# Altium integrated library NSC MiscPower.IntLib: 1417 symbols (part 3 of 39)
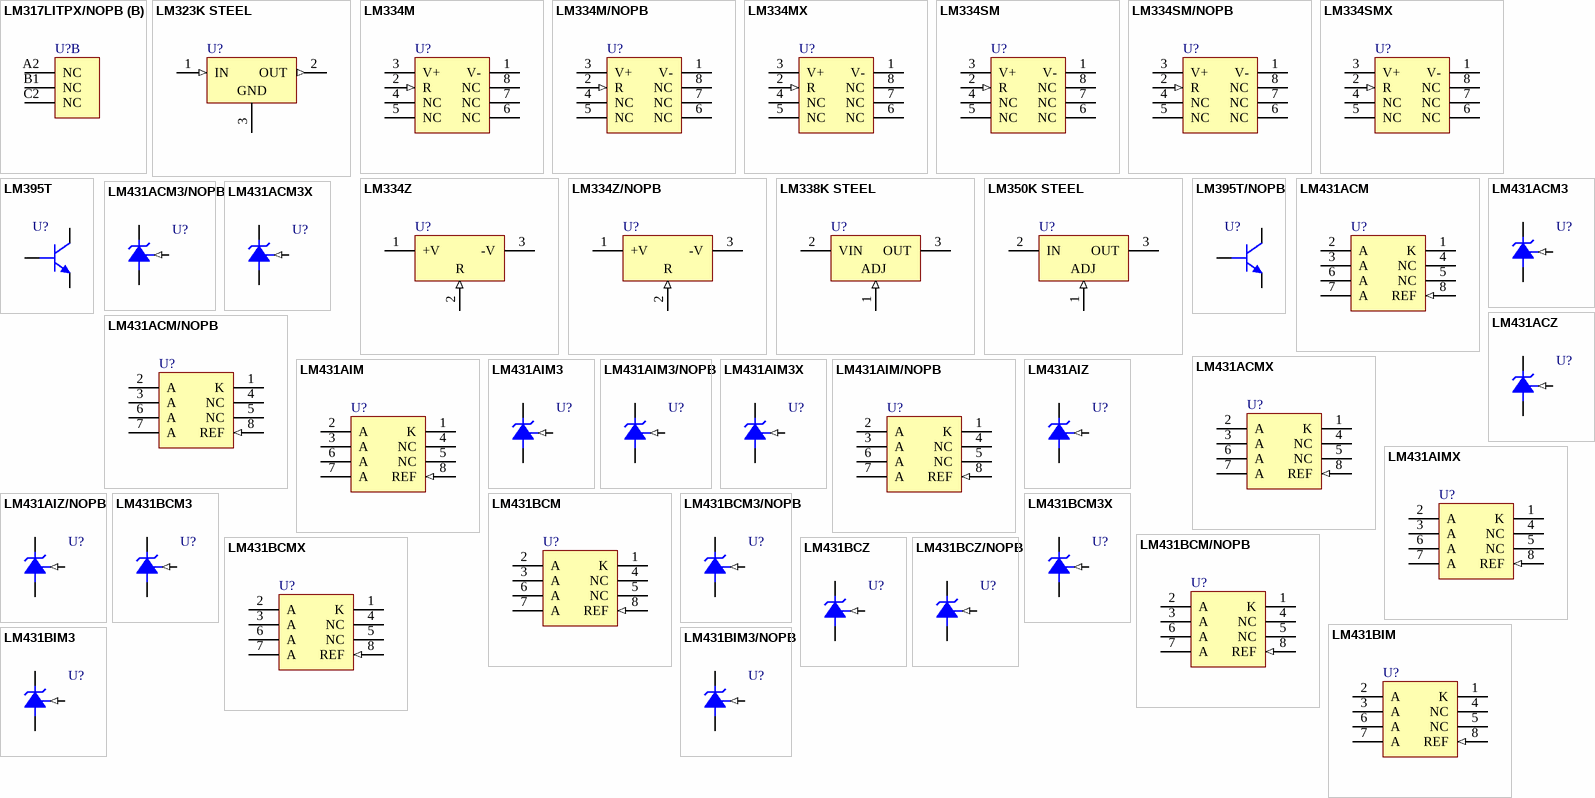
[diagram p53: symbols LM317LITPX/NOPB to LM431BIM3/NOPB]

## LM431AIZ/NOPB
designator U?
Adjustable Precision Zener Shunt Regulator, 3-pin TO-92, Pb-Free; PartNumber: LM431AIZ/NOPB; Manufacturer: National Semiconductor; PackageTopMarking: NSXYTT*LM431*AIZ; PowerWise: N; CompType: MiscPower; Published: 1-Mar-2010; DatasheetVersion: Mar-2005; PackageVersion: revG, Sep-2000; PackageReference: Z03A; Publisher: Altium Limited; PackageDescription: TO-92, Molded, 3 Lead; Supplier 1: Digi-Key; Supplier Part Number 1: LM431AIZ-ND; Supplier 2: Farnell; Supplier Part Number 2: 1564662; RoHS: Y; PinCount: 3; Code_JEDEC: TO-226-AA; ComponentLink1Description: LM431 Datasheet; ComponentLink1URL: http://www.national.com/ds/LM/LM431.pdf; ComponentLink2Description: LM431 Web Page; ComponentLink2URL: http://www.national.com/pf/LM/LM431.html; ComponentLink3Description: Z03A Package Page; ComponentLink3URL: http://www.national.com/packaging/folders/z03a.html
footprint Z03A (TO, Flat Index; 3 In-Line, Axial Leads; Body Dia. 5mm; Leads 0.55 x 0.50 mm (max))
pins: 1 REF (in), 2 A, 3 K

## LM431BCM
designator U?
Adjustable Precision Zener Shunt Regulator, 8-pin Narrow SOIC; PartNumber: LM431BCM; Manufacturer: National Semiconductor; PackageTopMarking: NSZXTT*431*BCM; PowerWise: N; CompType: MiscPower; Published: 4-Dec-2008; DatasheetVersion: Mar-2005; PackageVersion: revM, May-2009; PackageReference: M08A; Publisher: Altium Limited; PackageDescription: SOIC Narrow, 4.9 x 3.9 x 1.45mm, 8 Lead, 1.27mm Pitch; RoHS: N; PinCount: 8; Code_JEDEC: MS-012-AA; Code_IPC: SOIC127P600-8; ComponentLink1Description: LM431 Datasheet; ComponentLink1URL: http://www.national.com/ds/LM/LM431.pdf; ComponentLink2Description: LM431 Web Page; ComponentLink2URL: http://www.national.com/pf/LM/LM431.html; ComponentLink3Description: M08A Package Page; ComponentLink3URL: http://www.national.com/packaging/folders/m08a.html
footprint M08A_N (SOIC, 8-Leads, Body 4.9x3.9mm, Pitch 1.27mm, IPC Medium Density)
footprint M08A_L (SOIC, 8-Leads, Body 4.9x3.9mm, Pitch 1.27mm, IPC High Density)
footprint M08A_M (SOIC, 8-Leads, Body 4.9x3.9mm, Pitch 1.27mm, IPC Low Density)
pins: 1 K, 2 A, 3 A, 4 NC, 5 NC, 6 A, 7 A, 8 REF (in)

## LM431BCM3
designator U?
Adjustable Precision Zener Shunt Regulator, 3-pin SOT-23; PartNumber: LM431BCM3; Manufacturer: National Semiconductor; PackageTopMarking: N1D*XTT; PowerWise: N; CompType: MiscPower; Published: 4-Dec-2008; DatasheetVersion: Mar-2005; PackageVersion: revB, Mar-2003; PackageReference: MF03A; Publisher: Altium Limited; PackageDescription: Molded SOT-23, .115 x .051 x .037in Body, 3 Lead, .075 in Pitch; Supplier 1: Digi-Key; Supplier Part Number 1: LM431BCM3TR-ND; Supplier 2: Digi-Key; Supplier Part Number 2: LM431BCM3CT-ND; Supplier 3: Farnell; Supplier Part Number 3: 9779868; RoHS: N; PinCount: 3; ComponentLink1Description: LM431 Datasheet; ComponentLink1URL: http://www.national.com/ds/LM/LM431.pdf; ComponentLink2Description: LM431 Web Page; ComponentLink2URL: http://www.national.com/pf/LM/LM431.html; ComponentLink3Description: MF03A Package Page; ComponentLink3URL: http://www.national.com/packaging/folders/mf03a.html
footprint MF03A_N (SOT23, 3-Leads, Body 2.9x1.3mm, Pitch 0.95mm, Lead Span 2.4mm, IPC Medium Density)
footprint MF03A_L (SOT23, 3-Leads, Body 2.9x1.3mm, Pitch 0.95mm, Lead Span 2.4mm, IPC High Density)
footprint MF03A_M (SOT23, 3-Leads, Body 2.9x1.3mm, Pitch 0.95mm, Lead Span 2.4mm, IPC Low Density)
pins: 1 K, 2 REF (in), 3 A

## LM431BCM3/NOPB
designator U?
Adjustable Precision Zener Shunt Regulator, 3-pin SOT-23, Pb-Free; PartNumber: LM431BCM3/NOPB; Manufacturer: National Semiconductor; PackageTopMarking: N1D*XTT; PowerWise: N; CompType: MiscPower; Published: 1-Mar-2010; DatasheetVersion: Mar-2005; PackageVersion: revB, Mar-2003; PackageReference: MF03A; Publisher: Altium Limited; PackageDescription: Molded SOT-23, .115 x .051 x .037in Body, 3 Lead, .075 in Pitch; Supplier 1: Digi-Key; Supplier Part Number 1: LM431BCM3/NOPBTR-ND; Supplier 2: Digi-Key; Supplier Part Number 2: LM431BCM3/NOPBCT-ND; Supplier 3: Digi-Key; Supplier Part Number 3: LM431BCM3/NOPBDKR-ND; Supplier 4: Farnell; Supplier Part Number 4: 1564744; RoHS: Y; PinCount: 3; ComponentLink1Description: LM431 Datasheet; ComponentLink1URL: http://www.national.com/ds/LM/LM431.pdf; ComponentLink2Description: LM431 Web Page; ComponentLink2URL: http://www.national.com/pf/LM/LM431.html; ComponentLink3Description: MF03A Package Page; ComponentLink3URL: http://www.national.com/packaging/folders/mf03a.html
footprint MF03A_N (SOT23, 3-Leads, Body 2.9x1.3mm, Pitch 0.95mm, Lead Span 2.4mm, IPC Medium Density)
footprint MF03A_L (SOT23, 3-Leads, Body 2.9x1.3mm, Pitch 0.95mm, Lead Span 2.4mm, IPC High Density)
footprint MF03A_M (SOT23, 3-Leads, Body 2.9x1.3mm, Pitch 0.95mm, Lead Span 2.4mm, IPC Low Density)
pins: 1 K, 2 REF (in), 3 A

## LM431BCM3X
designator U?
Adjustable Precision Zener Shunt Regulator, 3-pin SOT-23; PartNumber: LM431BCM3X; Manufacturer: National Semiconductor; PackageTopMarking: N1D*XTT; PowerWise: N; CompType: MiscPower; Published: 1-Mar-2010; DatasheetVersion: Mar-2005; PackageVersion: revB, Mar-2003; PackageReference: MF03A; Publisher: Altium Limited; PackageDescription: Molded SOT-23, .115 x .051 x .037in Body, 3 Lead, .075 in Pitch; Supplier 1: Digi-Key; Supplier Part Number 1: LM431BCM3XTR-ND; Supplier 2: Digi-Key; Supplier Part Number 2: LM431BCM3XCT-ND; RoHS: N; PinCount: 3; ComponentLink1Description: LM431 Datasheet; ComponentLink1URL: http://www.national.com/ds/LM/LM431.pdf; ComponentLink2Description: LM431 Web Page; ComponentLink2URL: http://www.national.com/pf/LM/LM431.html; ComponentLink3Description: MF03A Package Page; ComponentLink3URL: http://www.national.com/packaging/folders/mf03a.html
footprint MF03A_N (SOT23, 3-Leads, Body 2.9x1.3mm, Pitch 0.95mm, Lead Span 2.4mm, IPC Medium Density)
footprint MF03A_L (SOT23, 3-Leads, Body 2.9x1.3mm, Pitch 0.95mm, Lead Span 2.4mm, IPC High Density)
footprint MF03A_M (SOT23, 3-Leads, Body 2.9x1.3mm, Pitch 0.95mm, Lead Span 2.4mm, IPC Low Density)
pins: 1 K, 2 REF (in), 3 A

## LM431BCM/NOPB
designator U?
Adjustable Precision Zener Shunt Regulator, 8-pin Narrow SOIC, Pb-Free; PartNumber: LM431BCM/NOPB; Manufacturer: National Semiconductor; PackageTopMarking: NSZXTT*431*BCM; PowerWise: N; CompType: MiscPower; Published: 1-Mar-2010; DatasheetVersion: Mar-2005; PackageVersion: revM, May-2009; PackageReference: M08A; Publisher: Altium Limited; PackageDescription: SOIC Narrow, 4.9 x 3.9 x 1.45mm, 8 Lead, 1.27mm Pitch; Supplier 1: Digi-Key; Supplier Part Number 1: LM431BCM-ND; RoHS: Y; PinCount: 8; Code_JEDEC: MS-012-AA; Code_IPC: SOIC127P600-8; ComponentLink1Description: LM431 Datasheet; ComponentLink1URL: http://www.national.com/ds/LM/LM431.pdf; ComponentLink2Description: LM431 Web Page; ComponentLink2URL: http://www.national.com/pf/LM/LM431.html; ComponentLink3Description: M08A Package Page; ComponentLink3URL: http://www.national.com/packaging/folders/m08a.html
footprint M08A_N (SOIC, 8-Leads, Body 4.9x3.9mm, Pitch 1.27mm, IPC Medium Density)
footprint M08A_L (SOIC, 8-Leads, Body 4.9x3.9mm, Pitch 1.27mm, IPC High Density)
footprint M08A_M (SOIC, 8-Leads, Body 4.9x3.9mm, Pitch 1.27mm, IPC Low Density)
pins: 1 K, 2 A, 3 A, 4 NC, 5 NC, 6 A, 7 A, 8 REF (in)

## LM431BCMX
designator U?
Adjustable Precision Zener Shunt Regulator, 8-pin Narrow SOIC; PartNumber: LM431BCMX; Manufacturer: National Semiconductor; PackageTopMarking: NSZXTT*431*BCM; PowerWise: N; CompType: MiscPower; Published: 1-Mar-2010; DatasheetVersion: Mar-2005; PackageVersion: revM, May-2009; PackageReference: M08A; Publisher: Altium Limited; PackageDescription: SOIC Narrow, 4.9 x 3.9 x 1.45mm, 8 Lead, 1.27mm Pitch; RoHS: N; PinCount: 8; Code_JEDEC: MS-012-AA; Code_IPC: SOIC127P600-8; ComponentLink1Description: LM431 Datasheet; ComponentLink1URL: http://www.national.com/ds/LM/LM431.pdf; ComponentLink2Description: LM431 Web Page; ComponentLink2URL: http://www.national.com/pf/LM/LM431.html; ComponentLink3Description: M08A Package Page; ComponentLink3URL: http://www.national.com/packaging/folders/m08a.html
footprint M08A_N (SOIC, 8-Leads, Body 4.9x3.9mm, Pitch 1.27mm, IPC Medium Density)
footprint M08A_L (SOIC, 8-Leads, Body 4.9x3.9mm, Pitch 1.27mm, IPC High Density)
footprint M08A_M (SOIC, 8-Leads, Body 4.9x3.9mm, Pitch 1.27mm, IPC Low Density)
pins: 1 K, 2 A, 3 A, 4 NC, 5 NC, 6 A, 7 A, 8 REF (in)

## LM431BCZ
designator U?
Adjustable Precision Zener Shunt Regulator, 3-pin TO-92; PartNumber: LM431BCZ; Manufacturer: National Semiconductor; PackageTopMarking: NSXYTT*LM431*BCZ; PowerWise: N; CompType: MiscPower; Published: 4-Dec-2008; DatasheetVersion: Mar-2005; PackageVersion: revG, Sep-2000; PackageReference: Z03A; Publisher: Altium Limited; PackageDescription: TO-92, Molded, 3 Lead; RoHS: N; PinCount: 3; Code_JEDEC: TO-226-AA; ComponentLink1Description: LM431 Datasheet; ComponentLink1URL: http://www.national.com/ds/LM/LM431.pdf; ComponentLink2Description: LM431 Web Page; ComponentLink2URL: http://www.national.com/pf/LM/LM431.html; ComponentLink3Description: Z03A Package Page; ComponentLink3URL: http://www.national.com/packaging/folders/z03a.html
footprint Z03A (TO, Flat Index; 3 In-Line, Axial Leads; Body Dia. 5mm; Leads 0.55 x 0.50 mm (max))
pins: 1 REF (in), 2 A, 3 K

## LM431BCZ/NOPB
designator U?
Adjustable Precision Zener Shunt Regulator, 3-pin TO-92, Pb-Free; PartNumber: LM431BCZ/NOPB; Manufacturer: National Semiconductor; PackageTopMarking: NSXYTT*LM431*BCZ; PowerWise: N; CompType: MiscPower; Published: 1-Mar-2010; DatasheetVersion: Mar-2005; PackageVersion: revG, Sep-2000; PackageReference: Z03A; Publisher: Altium Limited; PackageDescription: TO-92, Molded, 3 Lead; Supplier 1: Digi-Key; Supplier Part Number 1: LM431BCZ-ND; RoHS: Y; PinCount: 3; Code_JEDEC: TO-226-AA; ComponentLink1Description: LM431 Datasheet; ComponentLink1URL: http://www.national.com/ds/LM/LM431.pdf; ComponentLink2Description: LM431 Web Page; ComponentLink2URL: http://www.national.com/pf/LM/LM431.html; ComponentLink3Description: Z03A Package Page; ComponentLink3URL: http://www.national.com/packaging/folders/z03a.html
footprint Z03A (TO, Flat Index; 3 In-Line, Axial Leads; Body Dia. 5mm; Leads 0.55 x 0.50 mm (max))
pins: 1 REF (in), 2 A, 3 K

## LM431BIM
designator U?
Adjustable Precision Zener Shunt Regulator, 8-pin Narrow SOIC; PartNumber: LM431BIM; Manufacturer: National Semiconductor; PackageTopMarking: NSZXTT*431*BIM; PowerWise: N; CompType: MiscPower; Published: 4-Dec-2008; DatasheetVersion: Mar-2005; PackageVersion: revM, May-2009; PackageReference: M08A; Publisher: Altium Limited; PackageDescription: SOIC Narrow, 4.9 x 3.9 x 1.45mm, 8 Lead, 1.27mm Pitch; RoHS: N; PinCount: 8; Code_JEDEC: MS-012-AA; Code_IPC: SOIC127P600-8; ComponentLink1Description: LM431 Datasheet; ComponentLink1URL: http://www.national.com/ds/LM/LM431.pdf; ComponentLink2Description: LM431 Web Page; ComponentLink2URL: http://www.national.com/pf/LM/LM431.html; ComponentLink3Description: M08A Package Page; ComponentLink3URL: http://www.national.com/packaging/folders/m08a.html
footprint M08A_N (SOIC, 8-Leads, Body 4.9x3.9mm, Pitch 1.27mm, IPC Medium Density)
footprint M08A_L (SOIC, 8-Leads, Body 4.9x3.9mm, Pitch 1.27mm, IPC High Density)
footprint M08A_M (SOIC, 8-Leads, Body 4.9x3.9mm, Pitch 1.27mm, IPC Low Density)
pins: 1 K, 2 A, 3 A, 4 NC, 5 NC, 6 A, 7 A, 8 REF (in)

## LM431BIM3
designator U?
Adjustable Precision Zener Shunt Regulator, 3-pin SOT-23; PartNumber: LM431BIM3; Manufacturer: National Semiconductor; PackageTopMarking: N1C*XTT; PowerWise: N; CompType: MiscPower; Published: 4-Dec-2008; DatasheetVersion: Mar-2005; PackageVersion: revB, Mar-2003; PackageReference: MF03A; Publisher: Altium Limited; PackageDescription: Molded SOT-23, .115 x .051 x .037in Body, 3 Lead, .075 in Pitch; Supplier 1: Digi-Key; Supplier Part Number 1: LM431BIM3-ND; Supplier 2: Farnell; Supplier Part Number 2: 953921; RoHS: N; PinCount: 3; ComponentLink1Description: LM431 Datasheet; ComponentLink1URL: http://www.national.com/ds/LM/LM431.pdf; ComponentLink2Description: LM431 Web Page; ComponentLink2URL: http://www.national.com/pf/LM/LM431.html; ComponentLink3Description: MF03A Package Page; ComponentLink3URL: http://www.national.com/packaging/folders/mf03a.html
footprint MF03A_N (SOT23, 3-Leads, Body 2.9x1.3mm, Pitch 0.95mm, Lead Span 2.4mm, IPC Medium Density)
footprint MF03A_L (SOT23, 3-Leads, Body 2.9x1.3mm, Pitch 0.95mm, Lead Span 2.4mm, IPC High Density)
footprint MF03A_M (SOT23, 3-Leads, Body 2.9x1.3mm, Pitch 0.95mm, Lead Span 2.4mm, IPC Low Density)
pins: 1 K, 2 REF (in), 3 A

## LM431BIM3/NOPB
designator U?
Adjustable Precision Zener Shunt Regulator, 3-pin SOT-23, Pb-Free; PartNumber: LM431BIM3/NOPB; Manufacturer: National Semiconductor; PackageTopMarking: N1C*XTT; PowerWise: N; CompType: MiscPower; Published: 1-Mar-2010; DatasheetVersion: Mar-2005; PackageVersion: revB, Mar-2003; PackageReference: MF03A; Publisher: Altium Limited; PackageDescription: Molded SOT-23, .115 x .051 x .037in Body, 3 Lead, .075 in Pitch; Supplier 1: Digi-Key; Supplier Part Number 1: LM431BIM3/NOPBTR-ND; Supplier 2: Digi-Key; Supplier Part Number 2: LM431BIM3/NOPBCT-ND; Supplier 3: Digi-Key; Supplier Part Number 3: LM431BIM3/NOPBDKR-ND; Supplier 4: Farnell; Supplier Part Number 4: 1469156; RoHS: Y; PinCount: 3; ComponentLink1Description: LM431 Datasheet; ComponentLink1URL: http://www.national.com/ds/LM/LM431.pdf; ComponentLink2Description: LM431 Web Page; ComponentLink2URL: http://www.national.com/pf/LM/LM431.html; ComponentLink3Description: MF03A Package Page; ComponentLink3URL: http://www.national.com/packaging/folders/mf03a.html
footprint MF03A_N (SOT23, 3-Leads, Body 2.9x1.3mm, Pitch 0.95mm, Lead Span 2.4mm, IPC Medium Density)
footprint MF03A_L (SOT23, 3-Leads, Body 2.9x1.3mm, Pitch 0.95mm, Lead Span 2.4mm, IPC High Density)
footprint MF03A_M (SOT23, 3-Leads, Body 2.9x1.3mm, Pitch 0.95mm, Lead Span 2.4mm, IPC Low Density)
pins: 1 K, 2 REF (in), 3 A

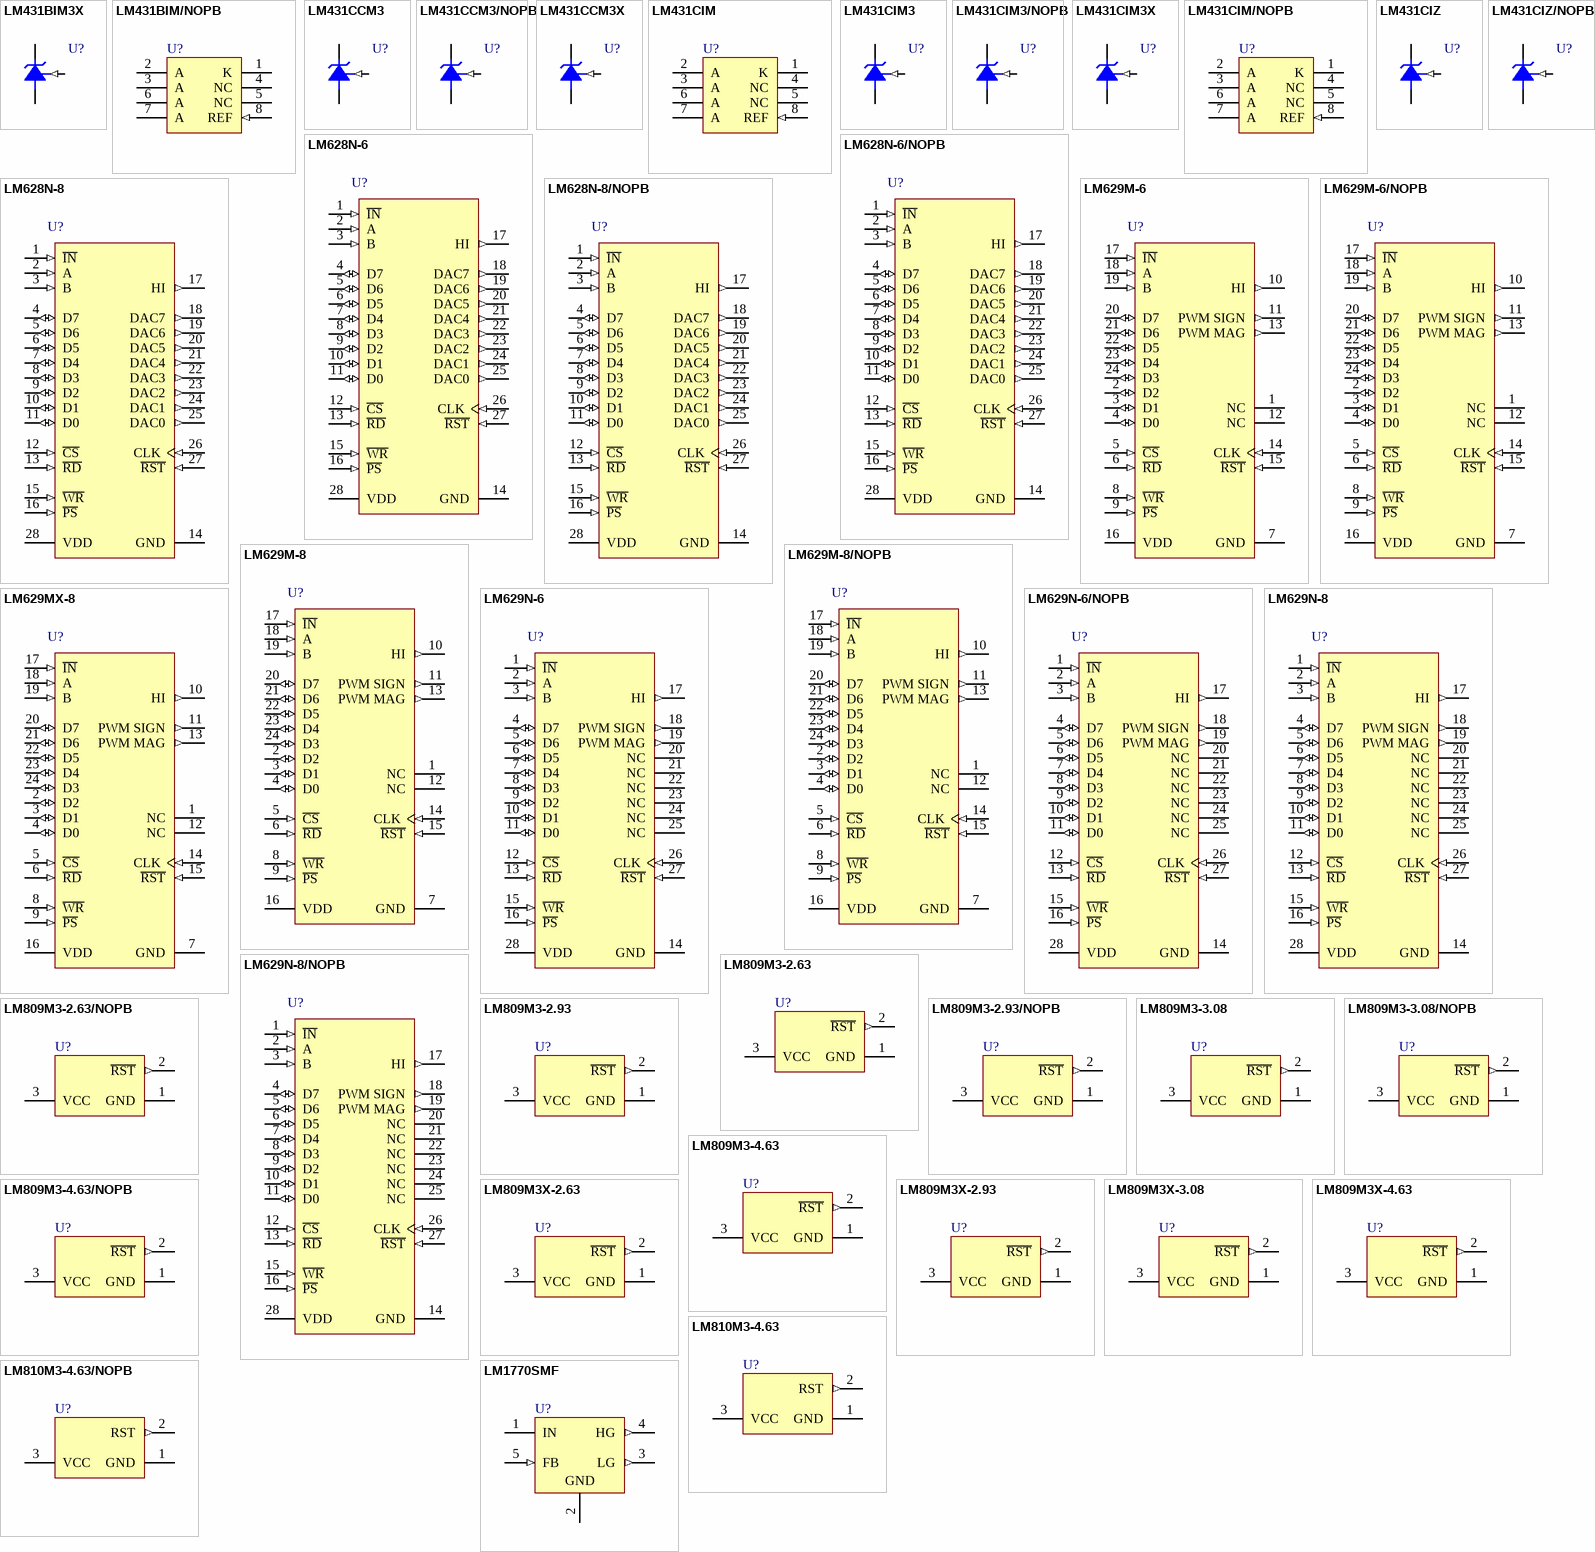
[diagram p3: symbols LM431BIM3X to LM1770SMF]

## LM431BIM3X
designator U?
Adjustable Precision Zener Shunt Regulator, 3-pin SOT-23; PartNumber: LM431BIM3X; Manufacturer: National Semiconductor; PackageTopMarking: N1C*XTT; PowerWise: N; CompType: MiscPower; Published: 1-Mar-2010; DatasheetVersion: Mar-2005; PackageVersion: revB, Mar-2003; PackageReference: MF03A; Publisher: Altium Limited; PackageDescription: Molded SOT-23, .115 x .051 x .037in Body, 3 Lead, .075 in Pitch; Supplier 1: Digi-Key; Supplier Part Number 1: LM431BIM3XTR-ND; Supplier 2: Digi-Key; Supplier Part Number 2: LM431BIM3XCT-ND; RoHS: N; PinCount: 3; ComponentLink1Description: LM431 Datasheet; ComponentLink1URL: http://www.national.com/ds/LM/LM431.pdf; ComponentLink2Description: LM431 Web Page; ComponentLink2URL: http://www.national.com/pf/LM/LM431.html; ComponentLink3Description: MF03A Package Page; ComponentLink3URL: http://www.national.com/packaging/folders/mf03a.html
footprint MF03A_N (SOT23, 3-Leads, Body 2.9x1.3mm, Pitch 0.95mm, Lead Span 2.4mm, IPC Medium Density)
footprint MF03A_L (SOT23, 3-Leads, Body 2.9x1.3mm, Pitch 0.95mm, Lead Span 2.4mm, IPC High Density)
footprint MF03A_M (SOT23, 3-Leads, Body 2.9x1.3mm, Pitch 0.95mm, Lead Span 2.4mm, IPC Low Density)
pins: 1 K, 2 REF (in), 3 A

## LM431BIM/NOPB
designator U?
Adjustable Precision Zener Shunt Regulator, 8-pin Narrow SOIC, Pb-Free; PartNumber: LM431BIM/NOPB; Manufacturer: National Semiconductor; PackageTopMarking: NSZXTT*431*BIM; PowerWise: N; CompType: MiscPower; Published: 1-Mar-2010; DatasheetVersion: Mar-2005; PackageVersion: revM, May-2009; PackageReference: M08A; Publisher: Altium Limited; PackageDescription: SOIC Narrow, 4.9 x 3.9 x 1.45mm, 8 Lead, 1.27mm Pitch; Supplier 1: Digi-Key; Supplier Part Number 1: LM431BIM-ND; RoHS: Y; PinCount: 8; Code_JEDEC: MS-012-AA; Code_IPC: SOIC127P600-8; ComponentLink1Description: LM431 Datasheet; ComponentLink1URL: http://www.national.com/ds/LM/LM431.pdf; ComponentLink2Description: LM431 Web Page; ComponentLink2URL: http://www.national.com/pf/LM/LM431.html; ComponentLink3Description: M08A Package Page; ComponentLink3URL: http://www.national.com/packaging/folders/m08a.html
footprint M08A_N (SOIC, 8-Leads, Body 4.9x3.9mm, Pitch 1.27mm, IPC Medium Density)
footprint M08A_L (SOIC, 8-Leads, Body 4.9x3.9mm, Pitch 1.27mm, IPC High Density)
footprint M08A_M (SOIC, 8-Leads, Body 4.9x3.9mm, Pitch 1.27mm, IPC Low Density)
pins: 1 K, 2 A, 3 A, 4 NC, 5 NC, 6 A, 7 A, 8 REF (in)

## LM431CCM3
designator U?
Adjustable Precision Zener Shunt Regulator, 3-pin SOT-23; PartNumber: LM431CCM3; Manufacturer: National Semiconductor; PackageTopMarking: N1B*XTT; PowerWise: N; CompType: MiscPower; Published: 4-Dec-2008; DatasheetVersion: Mar-2005; PackageVersion: revB, Mar-2003; PackageReference: MF03A; Publisher: Altium Limited; PackageDescription: Molded SOT-23, .115 x .051 x .037in Body, 3 Lead, .075 in Pitch; Supplier 1: Farnell; Supplier Part Number 1: 1798367; RoHS: N; PinCount: 3; ComponentLink1Description: LM431 Datasheet; ComponentLink1URL: http://www.national.com/ds/LM/LM431.pdf; ComponentLink2Description: LM431 Web Page; ComponentLink2URL: http://www.national.com/pf/LM/LM431.html; ComponentLink3Description: MF03A Package Page; ComponentLink3URL: http://www.national.com/packaging/folders/mf03a.html
footprint MF03A_N (SOT23, 3-Leads, Body 2.9x1.3mm, Pitch 0.95mm, Lead Span 2.4mm, IPC Medium Density)
footprint MF03A_L (SOT23, 3-Leads, Body 2.9x1.3mm, Pitch 0.95mm, Lead Span 2.4mm, IPC High Density)
footprint MF03A_M (SOT23, 3-Leads, Body 2.9x1.3mm, Pitch 0.95mm, Lead Span 2.4mm, IPC Low Density)
pins: 1 K, 2 REF (in), 3 A

## LM431CCM3/NOPB
designator U?
Adjustable Precision Zener Shunt Regulator, 3-pin SOT-23, Pb-Free; PartNumber: LM431CCM3/NOPB; Manufacturer: National Semiconductor; PackageTopMarking: N1B*XTT; PowerWise: N; CompType: MiscPower; Published: 1-Mar-2010; DatasheetVersion: Mar-2005; PackageVersion: revB, Mar-2003; PackageReference: MF03A; Publisher: Altium Limited; PackageDescription: Molded SOT-23, .115 x .051 x .037in Body, 3 Lead, .075 in Pitch; Supplier 1: Digi-Key; Supplier Part Number 1: LM431CCM3TR-ND; Supplier 2: Digi-Key; Supplier Part Number 2: LM431CCM3CT-ND; Supplier 3: Digi-Key; Supplier Part Number 3: LM431CCM3DKR-ND; Supplier 4: Farnell; Supplier Part Number 4: 1694537; RoHS: Y; PinCount: 3; ComponentLink1Description: LM431 Datasheet; ComponentLink1URL: http://www.national.com/ds/LM/LM431.pdf; ComponentLink2Description: LM431 Web Page; ComponentLink2URL: http://www.national.com/pf/LM/LM431.html; ComponentLink3Description: MF03A Package Page; ComponentLink3URL: http://www.national.com/packaging/folders/mf03a.html
footprint MF03A_N (SOT23, 3-Leads, Body 2.9x1.3mm, Pitch 0.95mm, Lead Span 2.4mm, IPC Medium Density)
footprint MF03A_L (SOT23, 3-Leads, Body 2.9x1.3mm, Pitch 0.95mm, Lead Span 2.4mm, IPC High Density)
footprint MF03A_M (SOT23, 3-Leads, Body 2.9x1.3mm, Pitch 0.95mm, Lead Span 2.4mm, IPC Low Density)
pins: 1 K, 2 REF (in), 3 A

## LM431CCM3X
designator U?
Adjustable Precision Zener Shunt Regulator, 3-pin SOT-23; PartNumber: LM431CCM3X; Manufacturer: National Semiconductor; PackageTopMarking: N1B*XTT; PowerWise: N; CompType: MiscPower; Published: 1-Mar-2010; DatasheetVersion: Mar-2005; PackageVersion: revB, Mar-2003; PackageReference: MF03A; Publisher: Altium Limited; PackageDescription: Molded SOT-23, .115 x .051 x .037in Body, 3 Lead, .075 in Pitch; RoHS: N; PinCount: 3; ComponentLink1Description: LM431 Datasheet; ComponentLink1URL: http://www.national.com/ds/LM/LM431.pdf; ComponentLink2Description: LM431 Web Page; ComponentLink2URL: http://www.national.com/pf/LM/LM431.html; ComponentLink3Description: MF03A Package Page; ComponentLink3URL: http://www.national.com/packaging/folders/mf03a.html
footprint MF03A_N (SOT23, 3-Leads, Body 2.9x1.3mm, Pitch 0.95mm, Lead Span 2.4mm, IPC Medium Density)
footprint MF03A_L (SOT23, 3-Leads, Body 2.9x1.3mm, Pitch 0.95mm, Lead Span 2.4mm, IPC High Density)
footprint MF03A_M (SOT23, 3-Leads, Body 2.9x1.3mm, Pitch 0.95mm, Lead Span 2.4mm, IPC Low Density)
pins: 1 K, 2 REF (in), 3 A

## LM431CIM
designator U?
Adjustable Precision Zener Shunt Regulator, 8-pin Narrow SOIC; PartNumber: LM431CIM; Manufacturer: National Semiconductor; PackageTopMarking: NSZXTT*431*CIM; PowerWise: N; CompType: MiscPower; Published: 4-Dec-2008; DatasheetVersion: Mar-2005; PackageVersion: revM, May-2009; PackageReference: M08A; Publisher: Altium Limited; PackageDescription: SOIC Narrow, 4.9 x 3.9 x 1.45mm, 8 Lead, 1.27mm Pitch; RoHS: N; PinCount: 8; Code_JEDEC: MS-012-AA; Code_IPC: SOIC127P600-8; ComponentLink1Description: LM431 Datasheet; ComponentLink1URL: http://www.national.com/ds/LM/LM431.pdf; ComponentLink2Description: LM431 Web Page; ComponentLink2URL: http://www.national.com/pf/LM/LM431.html; ComponentLink3Description: M08A Package Page; ComponentLink3URL: http://www.national.com/packaging/folders/m08a.html
footprint M08A_N (SOIC, 8-Leads, Body 4.9x3.9mm, Pitch 1.27mm, IPC Medium Density)
footprint M08A_L (SOIC, 8-Leads, Body 4.9x3.9mm, Pitch 1.27mm, IPC High Density)
footprint M08A_M (SOIC, 8-Leads, Body 4.9x3.9mm, Pitch 1.27mm, IPC Low Density)
pins: 1 K, 2 A, 3 A, 4 NC, 5 NC, 6 A, 7 A, 8 REF (in)

## LM431CIM3
designator U?
Adjustable Precision Zener Shunt Regulator, 3-pin SOT-23; PartNumber: LM431CIM3; Manufacturer: National Semiconductor; PackageTopMarking: N1A*XTT; PowerWise: N; CompType: MiscPower; Published: 4-Dec-2008; DatasheetVersion: Mar-2005; PackageVersion: revB, Mar-2003; PackageReference: MF03A; Publisher: Altium Limited; PackageDescription: Molded SOT-23, .115 x .051 x .037in Body, 3 Lead, .075 in Pitch; Supplier 1: Digi-Key; Supplier Part Number 1: LM431CIM3-ND; RoHS: N; PinCount: 3; ComponentLink1Description: LM431 Datasheet; ComponentLink1URL: http://www.national.com/ds/LM/LM431.pdf; ComponentLink2Description: LM431 Web Page; ComponentLink2URL: http://www.national.com/pf/LM/LM431.html; ComponentLink3Description: MF03A Package Page; ComponentLink3URL: http://www.national.com/packaging/folders/mf03a.html
footprint MF03A_N (SOT23, 3-Leads, Body 2.9x1.3mm, Pitch 0.95mm, Lead Span 2.4mm, IPC Medium Density)
footprint MF03A_L (SOT23, 3-Leads, Body 2.9x1.3mm, Pitch 0.95mm, Lead Span 2.4mm, IPC High Density)
footprint MF03A_M (SOT23, 3-Leads, Body 2.9x1.3mm, Pitch 0.95mm, Lead Span 2.4mm, IPC Low Density)
pins: 1 K, 2 REF (in), 3 A

## LM431CIM3/NOPB
designator U?
Adjustable Precision Zener Shunt Regulator, 3-pin SOT-23, Pb-Free; PartNumber: LM431CIM3/NOPB; Manufacturer: National Semiconductor; PackageTopMarking: N1A*XTT; PowerWise: N; CompType: MiscPower; Published: 1-Mar-2010; DatasheetVersion: Mar-2005; PackageVersion: revB, Mar-2003; PackageReference: MF03A; Publisher: Altium Limited; PackageDescription: Molded SOT-23, .115 x .051 x .037in Body, 3 Lead, .075 in Pitch; Supplier 1: Digi-Key; Supplier Part Number 1: LM431CIM3/NOPBTR-ND; Supplier 2: Digi-Key; Supplier Part Number 2: LM431CIM3/NOPBCT-ND; Supplier 3: Digi-Key; Supplier Part Number 3: LM431CIM3/NOPBDKR-ND; Supplier 4: Farnell; Supplier Part Number 4: 1469157; RoHS: Y; PinCount: 3; ComponentLink1Description: LM431 Datasheet; ComponentLink1URL: http://www.national.com/ds/LM/LM431.pdf; ComponentLink2Description: LM431 Web Page; ComponentLink2URL: http://www.national.com/pf/LM/LM431.html; ComponentLink3Description: MF03A Package Page; ComponentLink3URL: http://www.national.com/packaging/folders/mf03a.html
footprint MF03A_N (SOT23, 3-Leads, Body 2.9x1.3mm, Pitch 0.95mm, Lead Span 2.4mm, IPC Medium Density)
footprint MF03A_L (SOT23, 3-Leads, Body 2.9x1.3mm, Pitch 0.95mm, Lead Span 2.4mm, IPC High Density)
footprint MF03A_M (SOT23, 3-Leads, Body 2.9x1.3mm, Pitch 0.95mm, Lead Span 2.4mm, IPC Low Density)
pins: 1 K, 2 REF (in), 3 A

## LM431CIM3X
designator U?
Adjustable Precision Zener Shunt Regulator, 3-pin SOT-23; PartNumber: LM431CIM3X; Manufacturer: National Semiconductor; PackageTopMarking: N1A*XTT; PowerWise: N; CompType: MiscPower; Published: 1-Mar-2010; DatasheetVersion: Mar-2005; PackageVersion: revB, Mar-2003; PackageReference: MF03A; Publisher: Altium Limited; PackageDescription: Molded SOT-23, .115 x .051 x .037in Body, 3 Lead, .075 in Pitch; Supplier 1: Digi-Key; Supplier Part Number 1: LM431CIM3XTR-ND; Supplier 2: Digi-Key; Supplier Part Number 2: LM431CIM3XCT-ND; RoHS: N; PinCount: 3; ComponentLink1Description: LM431 Datasheet; ComponentLink1URL: http://www.national.com/ds/LM/LM431.pdf; ComponentLink2Description: LM431 Web Page; ComponentLink2URL: http://www.national.com/pf/LM/LM431.html; ComponentLink3Description: MF03A Package Page; ComponentLink3URL: http://www.national.com/packaging/folders/mf03a.html
footprint MF03A_N (SOT23, 3-Leads, Body 2.9x1.3mm, Pitch 0.95mm, Lead Span 2.4mm, IPC Medium Density)
footprint MF03A_L (SOT23, 3-Leads, Body 2.9x1.3mm, Pitch 0.95mm, Lead Span 2.4mm, IPC High Density)
footprint MF03A_M (SOT23, 3-Leads, Body 2.9x1.3mm, Pitch 0.95mm, Lead Span 2.4mm, IPC Low Density)
pins: 1 K, 2 REF (in), 3 A

## LM431CIM/NOPB
designator U?
Adjustable Precision Zener Shunt Regulator, 8-pin Narrow SOIC, Pb-Free; PartNumber: LM431CIM/NOPB; Manufacturer: National Semiconductor; PackageTopMarking: NSZXTT*431*CIM; PowerWise: N; CompType: MiscPower; Published: 1-Mar-2010; DatasheetVersion: Mar-2005; PackageVersion: revM, May-2009; PackageReference: M08A; Publisher: Altium Limited; PackageDescription: SOIC Narrow, 4.9 x 3.9 x 1.45mm, 8 Lead, 1.27mm Pitch; Supplier 1: Digi-Key; Supplier Part Number 1: LM431CIM-ND; RoHS: Y; PinCount: 8; Code_JEDEC: MS-012-AA; Code_IPC: SOIC127P600-8; ComponentLink1Description: LM431 Datasheet; ComponentLink1URL: http://www.national.com/ds/LM/LM431.pdf; ComponentLink2Description: LM431 Web Page; ComponentLink2URL: http://www.national.com/pf/LM/LM431.html; ComponentLink3Description: M08A Package Page; ComponentLink3URL: http://www.national.com/packaging/folders/m08a.html
footprint M08A_N (SOIC, 8-Leads, Body 4.9x3.9mm, Pitch 1.27mm, IPC Medium Density)
footprint M08A_L (SOIC, 8-Leads, Body 4.9x3.9mm, Pitch 1.27mm, IPC High Density)
footprint M08A_M (SOIC, 8-Leads, Body 4.9x3.9mm, Pitch 1.27mm, IPC Low Density)
pins: 1 K, 2 A, 3 A, 4 NC, 5 NC, 6 A, 7 A, 8 REF (in)

## LM431CIZ
designator U?
Adjustable Precision Zener Shunt Regulator, 3-pin TO-92; PartNumber: LM431CIZ; Manufacturer: National Semiconductor; PackageTopMarking: NSXYTT*LM431*CIZ; PowerWise: N; CompType: MiscPower; Published: 4-Dec-2008; DatasheetVersion: Mar-2005; PackageVersion: revG, Sep-2000; PackageReference: Z03A; Publisher: Altium Limited; PackageDescription: TO-92, Molded, 3 Lead; RoHS: N; PinCount: 3; Code_JEDEC: TO-226-AA; ComponentLink1Description: LM431 Datasheet; ComponentLink1URL: http://www.national.com/ds/LM/LM431.pdf; ComponentLink2Description: LM431 Web Page; ComponentLink2URL: http://www.national.com/pf/LM/LM431.html; ComponentLink3Description: Z03A Package Page; ComponentLink3URL: http://www.national.com/packaging/folders/z03a.html
footprint Z03A (TO, Flat Index; 3 In-Line, Axial Leads; Body Dia. 5mm; Leads 0.55 x 0.50 mm (max))
pins: 1 REF (in), 2 A, 3 K

## LM431CIZ/NOPB
designator U?
Adjustable Precision Zener Shunt Regulator, 3-pin TO-92, Pb-Free; PartNumber: LM431CIZ/NOPB; Manufacturer: National Semiconductor; PackageTopMarking: NSXYTT*LM431*CIZ; PowerWise: N; CompType: MiscPower; Published: 1-Mar-2010; DatasheetVersion: Mar-2005; PackageVersion: revG, Sep-2000; PackageReference: Z03A; Publisher: Altium Limited; PackageDescription: TO-92, Molded, 3 Lead; Supplier 1: Digi-Key; Supplier Part Number 1: LM431CIZ-ND; RoHS: Y; PinCount: 3; Code_JEDEC: TO-226-AA; ComponentLink1Description: LM431 Datasheet; ComponentLink1URL: http://www.national.com/ds/LM/LM431.pdf; ComponentLink2Description: LM431 Web Page; ComponentLink2URL: http://www.national.com/pf/LM/LM431.html; ComponentLink3Description: Z03A Package Page; ComponentLink3URL: http://www.national.com/packaging/folders/z03a.html
footprint Z03A (TO, Flat Index; 3 In-Line, Axial Leads; Body Dia. 5mm; Leads 0.55 x 0.50 mm (max))
pins: 1 REF (in), 2 A, 3 K

## LM628N-6
designator U?
Precision Motion Controller, 28-pin MDIP; PartNumber: LM628N-6; Manufacturer: National Semiconductor; PackageTopMarking: NSUZXYYTTE#*LM628N-6; PowerWise: N; CompType: MiscPower; Published: 4-Dec-2008; DatasheetVersion: Jan-2003; PackageVersion: revB, Aug-1993; PackageReference: NA28E; Publisher: Altium Limited; PackageDescription: Molded Dip, 28 Lead, .600 Centers, Substractor Package; RoHS: N; PinCount: 28; ComponentLink1Description: LM628 Datasheet; ComponentLink1URL: http://www.national.com/ds/LM/LM628.pdf; ComponentLink2Description: LM628 Web Page; ComponentLink2URL: http://www.national.com/pf/LM/LM628.html; ComponentLink3Description: NA28E Package Page; ComponentLink3URL: http://www.national.com/packaging/folders/na28e.html
footprint NA28E (DIP, 28-Leads, Row Spacing 15.24mm, Pitch 2.54mm, Body 36.83x13.72mm)
pins: 1 ~{IN} (in), 2 A (in), 3 B (in), 4 D7 (io), 5 D6 (io), 6 D5 (io), 7 D4 (io), 8 D3 (io), 9 D2 (io), 10 D1 (io), 11 D0 (io), 12 ~{CS} (in), 13 ~{RD} (in), 14 GND (power), 15 ~{WR} (in), 16 ~{PS} (in), 17 HI (out), 18 DAC7 (out), 19 DAC6 (out), 20 DAC5 (out), 21 DAC4 (out), 22 DAC3 (out), 23 DAC2 (out), 24 DAC1 (out), 25 DAC0 (out), 26 CLK (in), 27 ~{RST} (in), 28 VDD (power)

## LM628N-6/NOPB
designator U?
Precision Motion Controller, 28-pin MDIP, Pb-Free; PartNumber: LM628N-6/NOPB; Manufacturer: National Semiconductor; PackageTopMarking: NSUZXYYTTE#*LM628N-6; PowerWise: N; CompType: MiscPower; Published: 1-Mar-2010; DatasheetVersion: Jan-2003; PackageVersion: revB, Aug-1993; PackageReference: NA28E; Publisher: Altium Limited; PackageDescription: Molded Dip, 28 Lead, .600 Centers, Substractor Package; Supplier 1: Digi-Key; Supplier Part Number 1: LM628N-6-ND; Supplier 2: Farnell; Supplier Part Number 2: 1213596; RoHS: Y; PinCount: 28; ComponentLink1Description: LM628 Datasheet; ComponentLink1URL: http://www.national.com/ds/LM/LM628.pdf; ComponentLink2Description: LM628 Web Page; ComponentLink2URL: http://www.national.com/pf/LM/LM628.html; ComponentLink3Description: NA28E Package Page; ComponentLink3URL: http://www.national.com/packaging/folders/na28e.html
footprint NA28E (DIP, 28-Leads, Row Spacing 15.24mm, Pitch 2.54mm, Body 36.83x13.72mm)
pins: 1 ~{IN} (in), 2 A (in), 3 B (in), 4 D7 (io), 5 D6 (io), 6 D5 (io), 7 D4 (io), 8 D3 (io), 9 D2 (io), 10 D1 (io), 11 D0 (io), 12 ~{CS} (in), 13 ~{RD} (in), 14 GND (power), 15 ~{WR} (in), 16 ~{PS} (in), 17 HI (out), 18 DAC7 (out), 19 DAC6 (out), 20 DAC5 (out), 21 DAC4 (out), 22 DAC3 (out), 23 DAC2 (out), 24 DAC1 (out), 25 DAC0 (out), 26 CLK (in), 27 ~{RST} (in), 28 VDD (power)

## LM628N-8
designator U?
Precision Motion Controller, 28-pin MDIP; PartNumber: LM628N-8; Manufacturer: National Semiconductor; PackageTopMarking: NSUZXYYTTE#*LM628N-8; PowerWise: N; CompType: MiscPower; Published: 4-Dec-2008; DatasheetVersion: Jan-2003; PackageVersion: revB, Aug-1993; PackageReference: NA28E; Publisher: Altium Limited; PackageDescription: Molded Dip, 28 Lead, .600 Centers, Substractor Package; RoHS: N; PinCount: 28; ComponentLink1Description: LM628 Datasheet; ComponentLink1URL: http://www.national.com/ds/LM/LM628.pdf; ComponentLink2Description: LM628 Web Page; ComponentLink2URL: http://www.national.com/pf/LM/LM628.html; ComponentLink3Description: NA28E Package Page; ComponentLink3URL: http://www.national.com/packaging/folders/na28e.html
footprint NA28E (DIP, 28-Leads, Row Spacing 15.24mm, Pitch 2.54mm, Body 36.83x13.72mm)
pins: 1 ~{IN} (in), 2 A (in), 3 B (in), 4 D7 (io), 5 D6 (io), 6 D5 (io), 7 D4 (io), 8 D3 (io), 9 D2 (io), 10 D1 (io), 11 D0 (io), 12 ~{CS} (in), 13 ~{RD} (in), 14 GND (power), 15 ~{WR} (in), 16 ~{PS} (in), 17 HI (out), 18 DAC7 (out), 19 DAC6 (out), 20 DAC5 (out), 21 DAC4 (out), 22 DAC3 (out), 23 DAC2 (out), 24 DAC1 (out), 25 DAC0 (out), 26 CLK (in), 27 ~{RST} (in), 28 VDD (power)

## LM628N-8/NOPB
designator U?
Precision Motion Controller, 28-pin MDIP, Pb-Free; PartNumber: LM628N-8/NOPB; Manufacturer: National Semiconductor; PackageTopMarking: NSUZXYYTTE#*LM628N-8; PowerWise: N; CompType: MiscPower; Published: 1-Mar-2010; DatasheetVersion: Jan-2003; PackageVersion: revB, Aug-1993; PackageReference: NA28E; Publisher: Altium Limited; PackageDescription: Molded Dip, 28 Lead, .600 Centers, Substractor Package; Supplier 1: Digi-Key; Supplier Part Number 1: LM628N-8-ND; Supplier 2: Farnell; Supplier Part Number 2: 1559524; RoHS: Y; PinCount: 28; ComponentLink1Description: LM628 Datasheet; ComponentLink1URL: http://www.national.com/ds/LM/LM628.pdf; ComponentLink2Description: LM628 Web Page; ComponentLink2URL: http://www.national.com/pf/LM/LM628.html; ComponentLink3Description: NA28E Package Page; ComponentLink3URL: http://www.national.com/packaging/folders/na28e.html
footprint NA28E (DIP, 28-Leads, Row Spacing 15.24mm, Pitch 2.54mm, Body 36.83x13.72mm)
pins: 1 ~{IN} (in), 2 A (in), 3 B (in), 4 D7 (io), 5 D6 (io), 6 D5 (io), 7 D4 (io), 8 D3 (io), 9 D2 (io), 10 D1 (io), 11 D0 (io), 12 ~{CS} (in), 13 ~{RD} (in), 14 GND (power), 15 ~{WR} (in), 16 ~{PS} (in), 17 HI (out), 18 DAC7 (out), 19 DAC6 (out), 20 DAC5 (out), 21 DAC4 (out), 22 DAC3 (out), 23 DAC2 (out), 24 DAC1 (out), 25 DAC0 (out), 26 CLK (in), 27 ~{RST} (in), 28 VDD (power)

## LM629M-6
designator U?
Precision Motion Controller, 24-pin Wide SOIC; PartNumber: LM629M-6; Manufacturer: National Semiconductor; PackageTopMarking: NSUZXYTTE#*LM629M-6; PowerWise: N; CompType: MiscPower; Published: 4-Dec-2008; DatasheetVersion: Jan-2003; PackageVersion: revF, Apr-1990; PackageReference: M24B; Publisher: Altium Limited; PackageDescription: Molded Package, S.O., .300in Wide, 24 Lead; Supplier 1: Farnell; Supplier Part Number 1: 9490000; RoHS: N; PinCount: 24; ComponentLink1Description: LM629 Datasheet; ComponentLink1URL: http://www.national.com/ds/LM/LM629.pdf; ComponentLink2Description: LM629 Web Page; ComponentLink2URL: http://www.national.com/pf/LM/LM629.html; ComponentLink3Description: M24B Package Page; ComponentLink3URL: http://www.national.com/packaging/folders/m24b.html
footprint M24B_N (SOIC, 24-Leads, Body 15.4x7.5mm, Pitch 1.27mm, IPC Medium Density)
footprint M24B_L (SOIC, 24-Leads, Body 15.4x7.5mm, Pitch 1.27mm, IPC High Density)
footprint M24B_M (SOIC, 24-Leads, Body 15.4x7.5mm, Pitch 1.27mm, IPC Low Density)
pins: 1 NC, 2 D2 (io), 3 D1 (io), 4 D0 (io), 5 ~{CS} (in), 6 ~{RD} (in), 7 GND (power), 8 ~{WR} (in), 9 ~{PS} (in), 10 HI (out), 11 PWM SIGN (out), 12 NC, 13 PWM MAG (out), 14 CLK (in), 15 ~{RST} (in), 16 VDD (power), 17 ~{IN} (in), 18 A (in), 19 B (in), 20 D7 (io), 21 D6 (io), 22 D5 (io), 23 D4 (io), 24 D3 (io)

## LM629M-6/NOPB
designator U?
Precision Motion Controller, 24-pin Wide SOIC, Pb-Free; PartNumber: LM629M-6/NOPB; Manufacturer: National Semiconductor; PackageTopMarking: NSUZXYTTE#*LM629M-6; PowerWise: N; CompType: MiscPower; Published: 1-Mar-2010; DatasheetVersion: Jan-2003; PackageVersion: revF, Apr-1990; PackageReference: M24B; Publisher: Altium Limited; PackageDescription: Molded Package, S.O., .300in Wide, 24 Lead; Supplier 1: Digi-Key; Supplier Part Number 1: LM629M-6-ND; Supplier 2: Farnell; Supplier Part Number 2: 1559525; RoHS: Y; PinCount: 24; ComponentLink1Description: LM629 Datasheet; ComponentLink1URL: http://www.national.com/ds/LM/LM629.pdf; ComponentLink2Description: LM629 Web Page; ComponentLink2URL: http://www.national.com/pf/LM/LM629.html; ComponentLink3Description: M24B Package Page; ComponentLink3URL: http://www.national.com/packaging/folders/m24b.html
footprint M24B_N (SOIC, 24-Leads, Body 15.4x7.5mm, Pitch 1.27mm, IPC Medium Density)
footprint M24B_L (SOIC, 24-Leads, Body 15.4x7.5mm, Pitch 1.27mm, IPC High Density)
footprint M24B_M (SOIC, 24-Leads, Body 15.4x7.5mm, Pitch 1.27mm, IPC Low Density)
pins: 1 NC, 2 D2 (io), 3 D1 (io), 4 D0 (io), 5 ~{CS} (in), 6 ~{RD} (in), 7 GND (power), 8 ~{WR} (in), 9 ~{PS} (in), 10 HI (out), 11 PWM SIGN (out), 12 NC, 13 PWM MAG (out), 14 CLK (in), 15 ~{RST} (in), 16 VDD (power), 17 ~{IN} (in), 18 A (in), 19 B (in), 20 D7 (io), 21 D6 (io), 22 D5 (io), 23 D4 (io), 24 D3 (io)

## LM629M-8
designator U?
Precision Motion Controller, 24-pin Wide SOIC; PartNumber: LM629M-8; Manufacturer: National Semiconductor; PackageTopMarking: NSUZXYTTE#*LM629M-8; PowerWise: N; CompType: MiscPower; Published: 4-Dec-2008; DatasheetVersion: Jan-2003; PackageVersion: revF, Apr-1990; PackageReference: M24B; Publisher: Altium Limited; PackageDescription: Molded Package, S.O., .300in Wide, 24 Lead; Supplier 1: Farnell; Supplier Part Number 1: 9489991; RoHS: N; PinCount: 24; ComponentLink1Description: LM629 Datasheet; ComponentLink1URL: http://www.national.com/ds/LM/LM629.pdf; ComponentLink2Description: LM629 Web Page; ComponentLink2URL: http://www.national.com/pf/LM/LM629.html; ComponentLink3Description: M24B Package Page; ComponentLink3URL: http://www.national.com/packaging/folders/m24b.html
footprint M24B_N (SOIC, 24-Leads, Body 15.4x7.5mm, Pitch 1.27mm, IPC Medium Density)
footprint M24B_L (SOIC, 24-Leads, Body 15.4x7.5mm, Pitch 1.27mm, IPC High Density)
footprint M24B_M (SOIC, 24-Leads, Body 15.4x7.5mm, Pitch 1.27mm, IPC Low Density)
pins: 1 NC, 2 D2 (io), 3 D1 (io), 4 D0 (io), 5 ~{CS} (in), 6 ~{RD} (in), 7 GND (power), 8 ~{WR} (in), 9 ~{PS} (in), 10 HI (out), 11 PWM SIGN (out), 12 NC, 13 PWM MAG (out), 14 CLK (in), 15 ~{RST} (in), 16 VDD (power), 17 ~{IN} (in), 18 A (in), 19 B (in), 20 D7 (io), 21 D6 (io), 22 D5 (io), 23 D4 (io), 24 D3 (io)

## LM629M-8/NOPB
designator U?
Precision Motion Controller, 24-pin Wide SOIC, Pb-Free; PartNumber: LM629M-8/NOPB; Manufacturer: National Semiconductor; PackageTopMarking: NSUZXYTTE#*LM629M-8; PowerWise: N; CompType: MiscPower; Published: 1-Mar-2010; DatasheetVersion: Jan-2003; PackageVersion: revF, Apr-1990; PackageReference: M24B; Publisher: Altium Limited; PackageDescription: Molded Package, S.O., .300in Wide, 24 Lead; Supplier 1: Digi-Key; Supplier Part Number 1: LM629M-8-ND; RoHS: Y; PinCount: 24; ComponentLink1Description: LM629 Datasheet; ComponentLink1URL: http://www.national.com/ds/LM/LM629.pdf; ComponentLink2Description: LM629 Web Page; ComponentLink2URL: http://www.national.com/pf/LM/LM629.html; ComponentLink3Description: M24B Package Page; ComponentLink3URL: http://www.national.com/packaging/folders/m24b.html
footprint M24B_N (SOIC, 24-Leads, Body 15.4x7.5mm, Pitch 1.27mm, IPC Medium Density)
footprint M24B_L (SOIC, 24-Leads, Body 15.4x7.5mm, Pitch 1.27mm, IPC High Density)
footprint M24B_M (SOIC, 24-Leads, Body 15.4x7.5mm, Pitch 1.27mm, IPC Low Density)
pins: 1 NC, 2 D2 (io), 3 D1 (io), 4 D0 (io), 5 ~{CS} (in), 6 ~{RD} (in), 7 GND (power), 8 ~{WR} (in), 9 ~{PS} (in), 10 HI (out), 11 PWM SIGN (out), 12 NC, 13 PWM MAG (out), 14 CLK (in), 15 ~{RST} (in), 16 VDD (power), 17 ~{IN} (in), 18 A (in), 19 B (in), 20 D7 (io), 21 D6 (io), 22 D5 (io), 23 D4 (io), 24 D3 (io)

## LM629MX-8
designator U?
Precision Motion Controller, 24-pin Wide SOIC; PartNumber: LM629MX-8; Manufacturer: National Semiconductor; PackageTopMarking: NSUZXYTTE#*LM629M-8; PowerWise: N; CompType: MiscPower; Published: 1-Mar-2010; DatasheetVersion: Jan-2003; PackageVersion: revF, Apr-1990; PackageReference: M24B; Publisher: Altium Limited; PackageDescription: Molded Package, S.O., .300in Wide, 24 Lead; RoHS: N; PinCount: 24; ComponentLink1Description: LM629 Datasheet; ComponentLink1URL: http://www.national.com/ds/LM/LM629.pdf; ComponentLink2Description: LM629 Web Page; ComponentLink2URL: http://www.national.com/pf/LM/LM629.html; ComponentLink3Description: M24B Package Page; ComponentLink3URL: http://www.national.com/packaging/folders/m24b.html
footprint M24B_N (SOIC, 24-Leads, Body 15.4x7.5mm, Pitch 1.27mm, IPC Medium Density)
footprint M24B_L (SOIC, 24-Leads, Body 15.4x7.5mm, Pitch 1.27mm, IPC High Density)
footprint M24B_M (SOIC, 24-Leads, Body 15.4x7.5mm, Pitch 1.27mm, IPC Low Density)
pins: 1 NC, 2 D2 (io), 3 D1 (io), 4 D0 (io), 5 ~{CS} (in), 6 ~{RD} (in), 7 GND (power), 8 ~{WR} (in), 9 ~{PS} (in), 10 HI (out), 11 PWM SIGN (out), 12 NC, 13 PWM MAG (out), 14 CLK (in), 15 ~{RST} (in), 16 VDD (power), 17 ~{IN} (in), 18 A (in), 19 B (in), 20 D7 (io), 21 D6 (io), 22 D5 (io), 23 D4 (io), 24 D3 (io)

## LM629N-6
designator U?
Precision Motion Controller, 28-pin MDIP; PartNumber: LM629N-6; Manufacturer: National Semiconductor; PackageTopMarking: NSUZXYYTTE#*LM629N-6; PowerWise: N; CompType: MiscPower; Published: 4-Dec-2008; DatasheetVersion: Jan-2003; PackageVersion: revB, Aug-1993; PackageReference: NA28E; Publisher: Altium Limited; PackageDescription: Molded Dip, 28 Lead, .600 Centers, Substractor Package; RoHS: N; PinCount: 28; ComponentLink1Description: LM629 Datasheet; ComponentLink1URL: http://www.national.com/ds/LM/LM629.pdf; ComponentLink2Description: LM629 Web Page; ComponentLink2URL: http://www.national.com/pf/LM/LM629.html; ComponentLink3Description: NA28E Package Page; ComponentLink3URL: http://www.national.com/packaging/folders/na28e.html
footprint NA28E (DIP, 28-Leads, Row Spacing 15.24mm, Pitch 2.54mm, Body 36.83x13.72mm)
pins: 1 ~{IN} (in), 2 A (in), 3 B (in), 4 D7 (io), 5 D6 (io), 6 D5 (io), 7 D4 (io), 8 D3 (io), 9 D2 (io), 10 D1 (io), 11 D0 (io), 12 ~{CS} (in), 13 ~{RD} (in), 14 GND (power), 15 ~{WR} (in), 16 ~{PS} (in), 17 HI (out), 18 PWM SIGN (out), 19 PWM MAG (out), 20 NC, 21 NC, 22 NC, 23 NC, 24 NC, 25 NC, 26 CLK (in), 27 ~{RST} (in), 28 VDD (power)

## LM629N-6/NOPB
designator U?
Precision Motion Controller, 28-pin MDIP, Pb-Free; PartNumber: LM629N-6/NOPB; Manufacturer: National Semiconductor; PackageTopMarking: NSUZXYYTTE#*LM629N-6; PowerWise: N; CompType: MiscPower; Published: 1-Mar-2010; DatasheetVersion: Jan-2003; PackageVersion: revB, Aug-1993; PackageReference: NA28E; Publisher: Altium Limited; PackageDescription: Molded Dip, 28 Lead, .600 Centers, Substractor Package; Supplier 1: Digi-Key; Supplier Part Number 1: LM629N-6-ND; RoHS: Y; PinCount: 28; ComponentLink1Description: LM629 Datasheet; ComponentLink1URL: http://www.national.com/ds/LM/LM629.pdf; ComponentLink2Description: LM629 Web Page; ComponentLink2URL: http://www.national.com/pf/LM/LM629.html; ComponentLink3Description: NA28E Package Page; ComponentLink3URL: http://www.national.com/packaging/folders/na28e.html
footprint NA28E (DIP, 28-Leads, Row Spacing 15.24mm, Pitch 2.54mm, Body 36.83x13.72mm)
pins: 1 ~{IN} (in), 2 A (in), 3 B (in), 4 D7 (io), 5 D6 (io), 6 D5 (io), 7 D4 (io), 8 D3 (io), 9 D2 (io), 10 D1 (io), 11 D0 (io), 12 ~{CS} (in), 13 ~{RD} (in), 14 GND (power), 15 ~{WR} (in), 16 ~{PS} (in), 17 HI (out), 18 PWM SIGN (out), 19 PWM MAG (out), 20 NC, 21 NC, 22 NC, 23 NC, 24 NC, 25 NC, 26 CLK (in), 27 ~{RST} (in), 28 VDD (power)

## LM629N-8
designator U?
Precision Motion Controller, 28-pin MDIP; PartNumber: LM629N-8; Manufacturer: National Semiconductor; PackageTopMarking: NSUZXYYTTE#*LM629N-8; PowerWise: N; CompType: MiscPower; Published: 4-Dec-2008; DatasheetVersion: Jan-2003; PackageVersion: revB, Aug-1993; PackageReference: NA28E; Publisher: Altium Limited; PackageDescription: Molded Dip, 28 Lead, .600 Centers, Substractor Package; RoHS: N; PinCount: 28; ComponentLink1Description: LM629 Datasheet; ComponentLink1URL: http://www.national.com/ds/LM/LM629.pdf; ComponentLink2Description: LM629 Web Page; ComponentLink2URL: http://www.national.com/pf/LM/LM629.html; ComponentLink3Description: NA28E Package Page; ComponentLink3URL: http://www.national.com/packaging/folders/na28e.html
footprint NA28E (DIP, 28-Leads, Row Spacing 15.24mm, Pitch 2.54mm, Body 36.83x13.72mm)
pins: 1 ~{IN} (in), 2 A (in), 3 B (in), 4 D7 (io), 5 D6 (io), 6 D5 (io), 7 D4 (io), 8 D3 (io), 9 D2 (io), 10 D1 (io), 11 D0 (io), 12 ~{CS} (in), 13 ~{RD} (in), 14 GND (power), 15 ~{WR} (in), 16 ~{PS} (in), 17 HI (out), 18 PWM SIGN (out), 19 PWM MAG (out), 20 NC, 21 NC, 22 NC, 23 NC, 24 NC, 25 NC, 26 CLK (in), 27 ~{RST} (in), 28 VDD (power)

## LM629N-8/NOPB
designator U?
Precision Motion Controller, 28-pin MDIP, Pb-Free; PartNumber: LM629N-8/NOPB; Manufacturer: National Semiconductor; PackageTopMarking: NSUZXYYTTE#*LM629N-8; PowerWise: N; CompType: MiscPower; Published: 1-Mar-2010; DatasheetVersion: Jan-2003; PackageVersion: revB, Aug-1993; PackageReference: NA28E; Publisher: Altium Limited; PackageDescription: Molded Dip, 28 Lead, .600 Centers, Substractor Package; Supplier 1: Digi-Key; Supplier Part Number 1: LM629N-8-ND; Supplier 2: Farnell; Supplier Part Number 2: 1559526; RoHS: Y; PinCount: 28; ComponentLink1Description: LM629 Datasheet; ComponentLink1URL: http://www.national.com/ds/LM/LM629.pdf; ComponentLink2Description: LM629 Web Page; ComponentLink2URL: http://www.national.com/pf/LM/LM629.html; ComponentLink3Description: NA28E Package Page; ComponentLink3URL: http://www.national.com/packaging/folders/na28e.html
footprint NA28E (DIP, 28-Leads, Row Spacing 15.24mm, Pitch 2.54mm, Body 36.83x13.72mm)
pins: 1 ~{IN} (in), 2 A (in), 3 B (in), 4 D7 (io), 5 D6 (io), 6 D5 (io), 7 D4 (io), 8 D3 (io), 9 D2 (io), 10 D1 (io), 11 D0 (io), 12 ~{CS} (in), 13 ~{RD} (in), 14 GND (power), 15 ~{WR} (in), 16 ~{PS} (in), 17 HI (out), 18 PWM SIGN (out), 19 PWM MAG (out), 20 NC, 21 NC, 22 NC, 23 NC, 24 NC, 25 NC, 26 CLK (in), 27 ~{RST} (in), 28 VDD (power)

## LM809M3-2.63
designator U?
Microprocessor Reset Circuit, 2.63V Threshold, 3-pin SOT-23; PartNumber: LM809M3-2.63; Manufacturer: National Semiconductor; PackageTopMarking: S3B*XTT; PowerWise: N; CompType: MiscPower; Published: 4-Dec-2008; DatasheetVersion: Sep-2002; PackageVersion: revB, Mar-2003; PackageReference: MF03A; Publisher: Altium Limited; PackageDescription: Molded SOT-23, .115 x .051 x .037in Body, 3 Lead, .075 in Pitch; Supplier 1: Farnell; Supplier Part Number 1: 1652453; RoHS: N; PinCount: 3; ComponentLink1Description: LM809 Datasheet; ComponentLink1URL: http://www.national.com/ds/LM/LM809.pdf; ComponentLink2Description: LM809 Web Page; ComponentLink2URL: http://www.national.com/pf/LM/LM809.html; ComponentLink3Description: MF03A Package Page; ComponentLink3URL: http://www.national.com/packaging/folders/mf03a.html
footprint MF03A_N (SOT23, 3-Leads, Body 2.9x1.3mm, Pitch 0.95mm, Lead Span 2.4mm, IPC Medium Density)
footprint MF03A_L (SOT23, 3-Leads, Body 2.9x1.3mm, Pitch 0.95mm, Lead Span 2.4mm, IPC High Density)
footprint MF03A_M (SOT23, 3-Leads, Body 2.9x1.3mm, Pitch 0.95mm, Lead Span 2.4mm, IPC Low Density)
pins: 1 GND (power), 2 ~{RST} (out), 3 VCC (power)

## LM809M3-2.63/NOPB
designator U?
Microprocessor Reset Circuits, 3-pin SOT-23, Pb-Free; PartNumber: LM809M3-2.63/NOPB; Manufacturer: National Semiconductor; PackageTopMarking: S3B*XTT; PowerWise: N; CompType: MiscPower; Published: 1-Mar-2010; DatasheetVersion: Sep-2002; PackageVersion: revB, Mar-2003; PackageReference: MF03A; Publisher: Altium Limited; PackageDescription: Molded SOT-23, .115 x .051 x .037in Body, 3 Lead, .075 in Pitch; Supplier 1: Digi-Key; Supplier Part Number 1: LM809M3-2.63TR-ND; Supplier 2: Digi-Key; Supplier Part Number 2: LM809M3-2.63CT-ND; Supplier 3: Digi-Key; Supplier Part Number 3: LM809M3-2.63DKR-ND; RoHS: Y; PinCount: 3; ComponentLink1Description: LM809 Datasheet; ComponentLink1URL: http://www.national.com/ds/LM/LM809.pdf; ComponentLink2Description: LM809 Web Page; ComponentLink2URL: http://www.national.com/pf/LM/LM809.html; ComponentLink3Description: MF03A Package Page; ComponentLink3URL: http://www.national.com/packaging/folders/mf03a.html
footprint MF03A_N (SOT23, 3-Leads, Body 2.9x1.3mm, Pitch 0.95mm, Lead Span 2.4mm, IPC Medium Density)
footprint MF03A_L (SOT23, 3-Leads, Body 2.9x1.3mm, Pitch 0.95mm, Lead Span 2.4mm, IPC High Density)
footprint MF03A_M (SOT23, 3-Leads, Body 2.9x1.3mm, Pitch 0.95mm, Lead Span 2.4mm, IPC Low Density)
pins: 1 GND (power), 2 ~{RST} (out), 3 VCC (power)

## LM809M3-2.93
designator U?
Microprocessor Reset Circuit, 2.93V Threshold, 3-pin SOT-23; PartNumber: LM809M3-2.93; Manufacturer: National Semiconductor; PackageTopMarking: S4B*XTT; PowerWise: N; CompType: MiscPower; Published: 4-Dec-2008; DatasheetVersion: Sep-2002; PackageVersion: revB, Mar-2003; PackageReference: MF03A; Publisher: Altium Limited; PackageDescription: Molded SOT-23, .115 x .051 x .037in Body, 3 Lead, .075 in Pitch; Supplier 1: Farnell; Supplier Part Number 1: 1652454; RoHS: N; PinCount: 3; ComponentLink1Description: LM809 Datasheet; ComponentLink1URL: http://www.national.com/ds/LM/LM809.pdf; ComponentLink2Description: LM809 Web Page; ComponentLink2URL: http://www.national.com/pf/LM/LM809.html; ComponentLink3Description: MF03A Package Page; ComponentLink3URL: http://www.national.com/packaging/folders/mf03a.html
footprint MF03A_N (SOT23, 3-Leads, Body 2.9x1.3mm, Pitch 0.95mm, Lead Span 2.4mm, IPC Medium Density)
footprint MF03A_L (SOT23, 3-Leads, Body 2.9x1.3mm, Pitch 0.95mm, Lead Span 2.4mm, IPC High Density)
footprint MF03A_M (SOT23, 3-Leads, Body 2.9x1.3mm, Pitch 0.95mm, Lead Span 2.4mm, IPC Low Density)
pins: 1 GND (power), 2 ~{RST} (out), 3 VCC (power)